# Altium schematic symbol library Linelance_schematic.SchLib: 14 symbols
Pins are listed as number, name and electrical type; pins without a type are passive.

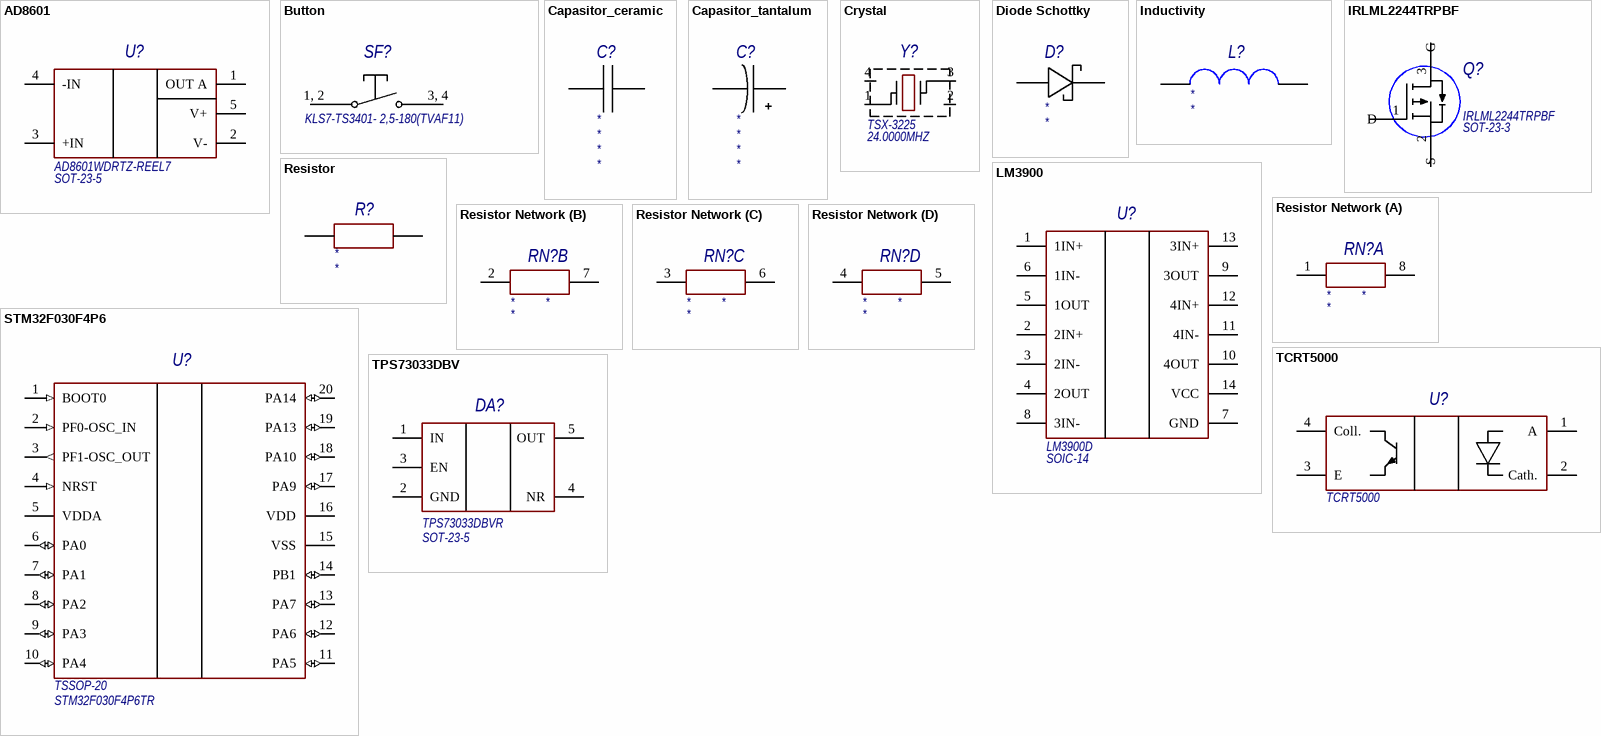
[diagram p0: symbols AD8601 to TPS73033DBV]

## AD8601
designator U?, comment Case: SOT-23-5  (hidden comment: AD8601WDRTZ-REEL7)
IC OPAMP GP 1 CIRCUIT SOT23-5; Manufacturer: Analog Devices Inc.; HelpURL: https://www.digikey.com/product-detail/en/analog-devices-inc/AD8601WDRTZ-REEL7/AD8601WDRTZ-REEL7TR-ND/2237618; Model: AD8601WDRTZ-REEL7
footprint SOT-23-5 (SOT23, 5-Leads, Body 2,90x2,80mm, Pitch 0,95mm, IPC High Density)
pins: 1 OUT A, 2 V-, 3 +IN, 4 -IN, 5 V+

## Button
designator SF?, comment KLS7-TS3401- 2,5-180(TVAF11)
SWITCH TACTILE SPST-NO 0.05A 32V; Manufacturer: KLS electronic co ltd; HelpURL: https://www.chipdip.by/product/kls7-ts3401-2-5-180-tvaf11; Case: KLS7-TS3401; Model: KLS7-TS3401- 2,5-180(TVAF11)
footprint KMR221GLFS
pins: 1, 2, 3, 4

## Capasitor_ceramic
designator C?
Manufacturer: *; HelpURL: *; Model: *; Voltage: *; Case: *; Value: *
footprint C0603
pins: 1, 2

## Capasitor_tantalum
designator C?
Manufacturer: *; HelpURL: *; Model: *; Case: *; Value: *; Voltage: *
footprint TANT-A
pins: 1, 2

## Crystal
designator Y?, comment Case: TSX-3225  (hidden comment: 24.0000MHZ)
CRYSTAL 24.0000MHZ 9PF SMD; Manufacturer: EPSON; Model: TSX-3225 24.0000MF20G-AC0; HelpURL: https://www.digikey.com/product-detail/en/epson/TSX-3225-24-0000MF20G-AC0/SER4185TR-ND/2819192; Value: 24.0000MHZ
footprint TSX-3225 (Crystal)
pins: 1, 2, 3, 4

## Diode Schottky
designator D?
Manufacturer: *; HelpURL: *; Case: *; Model: *
footprint SOD-523
pins: 1, 2

## Inductivity
designator L?
Model: *; Manufacturer: *; HelpURL: *; Case: *; Value: *
footprint IND1206
pins: 1, 2

## IRLML2244TRPBF
designator Q?  Case: SOT-23-3  (hidden comment: IRLML2244TRPBF)
MOSFET P-CH 20V 4.3A SOT23; Manifacturer: Infineon Technologies; HelpURL: https://www.chipdip.by/product/irlml2244trpbf; Model: IRLML2244TRPBF
footprint SOT-23-3
pins: 1 D, 2 S, 3 G

## LM3900
designator U?, comment Case: SOIC-14  (hidden comment: LM3900D)
IC OPAMP GP 4 CIRCUIT 14SOIC; Manufacturer: Texas Instruments; HelpURL: https://www.digikey.com/product-detail/en/texas-instruments/LM3900D/296-9564-5-ND/379857; Model: LM3900D
footprint SOIC-14 (SOIC, 14-Leads, Body 7,15x3,90mm, Pitch 1,27mm, IPC Medium Density)
pins: 1 1IN+, 2 2IN+, 3 2IN-, 4 2OUT, 5 1OUT, 6 1IN-, 7 GND, 8 3IN-, 9 3OUT, 10 4OUT, 11 4IN-, 12 4IN+, 13 3IN+, 14 VCC

## Resistor
designator R?
HelpURL: *; Manufacturer: *; Model: *; Case: *; Value: *
footprint R0603
pins: 1, 2

## Resistor Network
designator RN?
HelpURL: *; Manufacturer: *; Case: *; Value: *; Model: *
footprint RN_YC164-JR-072K2L (Chip Array, ConvexE, 8-Leads, Pitch 0,80mm,  Body 3,20x1,60mm,  IPC Medium Density)
part A pins: 1, 8
part B pins: 2, 7
part C pins: 3, 6
part D pins: 4, 5

## STM32F030F4P6
designator U?, comment Case: TSSOP-20  (hidden comment: STM32F030F4P6TR)
IC MCU 32BIT 16KB FLASH 20TSSOP; Manufacturer: STMicroelectronics; HelpURL: https://www.digikey.com/product-detail/en/stmicroelectronics/STM32F030F4P6TR/497-17333-1-ND/7650385; Model: STM32F030F4P6TR
footprint TSSOP-20
pins: 1 BOOT0 (in), 2 PF0-OSC_IN (in), 3 PF1-OSC_OUT (out), 4 NRST (in), 5 VDDA (power), 6 PA0 (io), 7 PA1 (io), 8 PA2 (io), 9 PA3 (io), 10 PA4 (io), 11 PA5 (io), 12 PA6 (io), 13 PA7 (io), 14 PB1 (io), 15 VSS (power), 16 VDD (power), 17 PA9 (io), 18 PA10 (io), 19 PA13 (io), 20 PA14 (io)

## TCRT5000
designator U?
SENSOR OPTO TRANS 15MM REFL PCB; Manufacturer: Vishay Semiconductor Opto Division; HelpURL: https://www.digikey.com/product-detail/en/vishay-semiconductor-opto-division/TCRT5000/751-1033-5-ND/1681167; Case: TCRT5000; Model: TCRT5000
footprint TCRT5000
pins: 1 A, 2 Cath., 3 E, 4 Coll.

## TPS73033DBV
designator DA?  Case: SOT-23-5  Model: TPS73033DBVR
IC REG LINEAR 3.3V 200MA SOT 23-5; Manufacturer: Texas Instruments; HelpURL: https://www.digikey.com/product-detail/en/texas-instruments/TPS73033DBVR/296-17580-1-ND/705377
footprint SOT-23-5 (SOT23, 5-Leads, Body 2,90x2,80mm, Pitch 0,95mm, IPC High Density)
pins: 1 IN, 2 GND, 3 EN, 4 NR, 5 OUT